# EAGLE library part M2 (library zz-upenn)
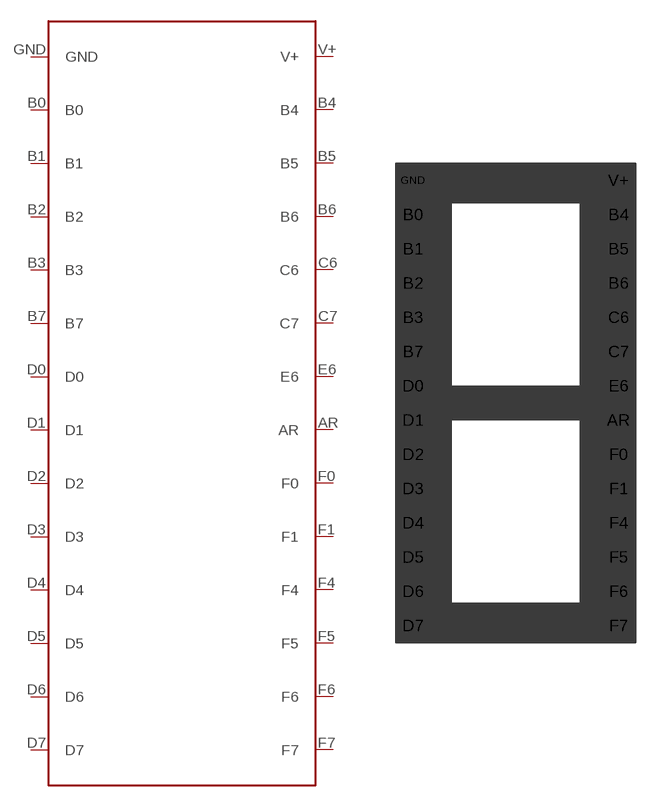
[diagram p27: symbol with the pads of M1; footprint M1]

Designator prefix -

## M2  [M1]
AR  AR
B0  B0
B1  B1
B2  B2
B3  B3
B4  B4
B5  B5
B6  B6
B7  B7
C6  C6
C7  C7
D0  D0
D1  D1
D2  D2
D3  D3
D4  D4
D5  D5
D6  D6
D7  D7
E6  E6
F0  F0
F1  F1
F4  F4
F5  F5
F6  F6
F7  F7
GND  GND
V+  V+

## Footprint M1 (pad centres in mm)
drill 0.8: AR 7.62,-17.78; B0 -7.62,-2.54; B1 -7.62,-5.08; B2 -7.62,-7.62; B3 -7.62,-10.16; B4 7.62,-2.54; B5 7.62,-5.08; B6 7.62,-7.62; B7 -7.62,-12.7; C6 7.62,-10.16; C7 7.62,-12.7; D0 -7.62,-15.24; D1 -7.62,-17.78; D2 -7.62,-20.32; D3 -7.62,-22.86; D4 -7.62,-25.4; D5 -7.62,-27.94; D6 -7.62,-30.48; D7 -7.62,-33.02; E6 7.62,-15.24; F0 7.62,-20.32; F1 7.62,-22.86; F4 7.62,-25.4; F5 7.62,-27.94; F6 7.62,-30.48; F7 7.62,-33.02; GND -7.62,0; V+ 7.62,0